# Altium footprint library fastcar.PcbLib: 23 footprints (part 1 of 2)
Each footprint in its own frame and in the unit in brackets; x right, y up, seen from the top. Pads: shape width x height; smd on the part's side, far side on the other; paste and mask are expansions set on the pad; w line width, h text height; cw(c..) or ccw(c..) is an arc to the next point about the centre after c.
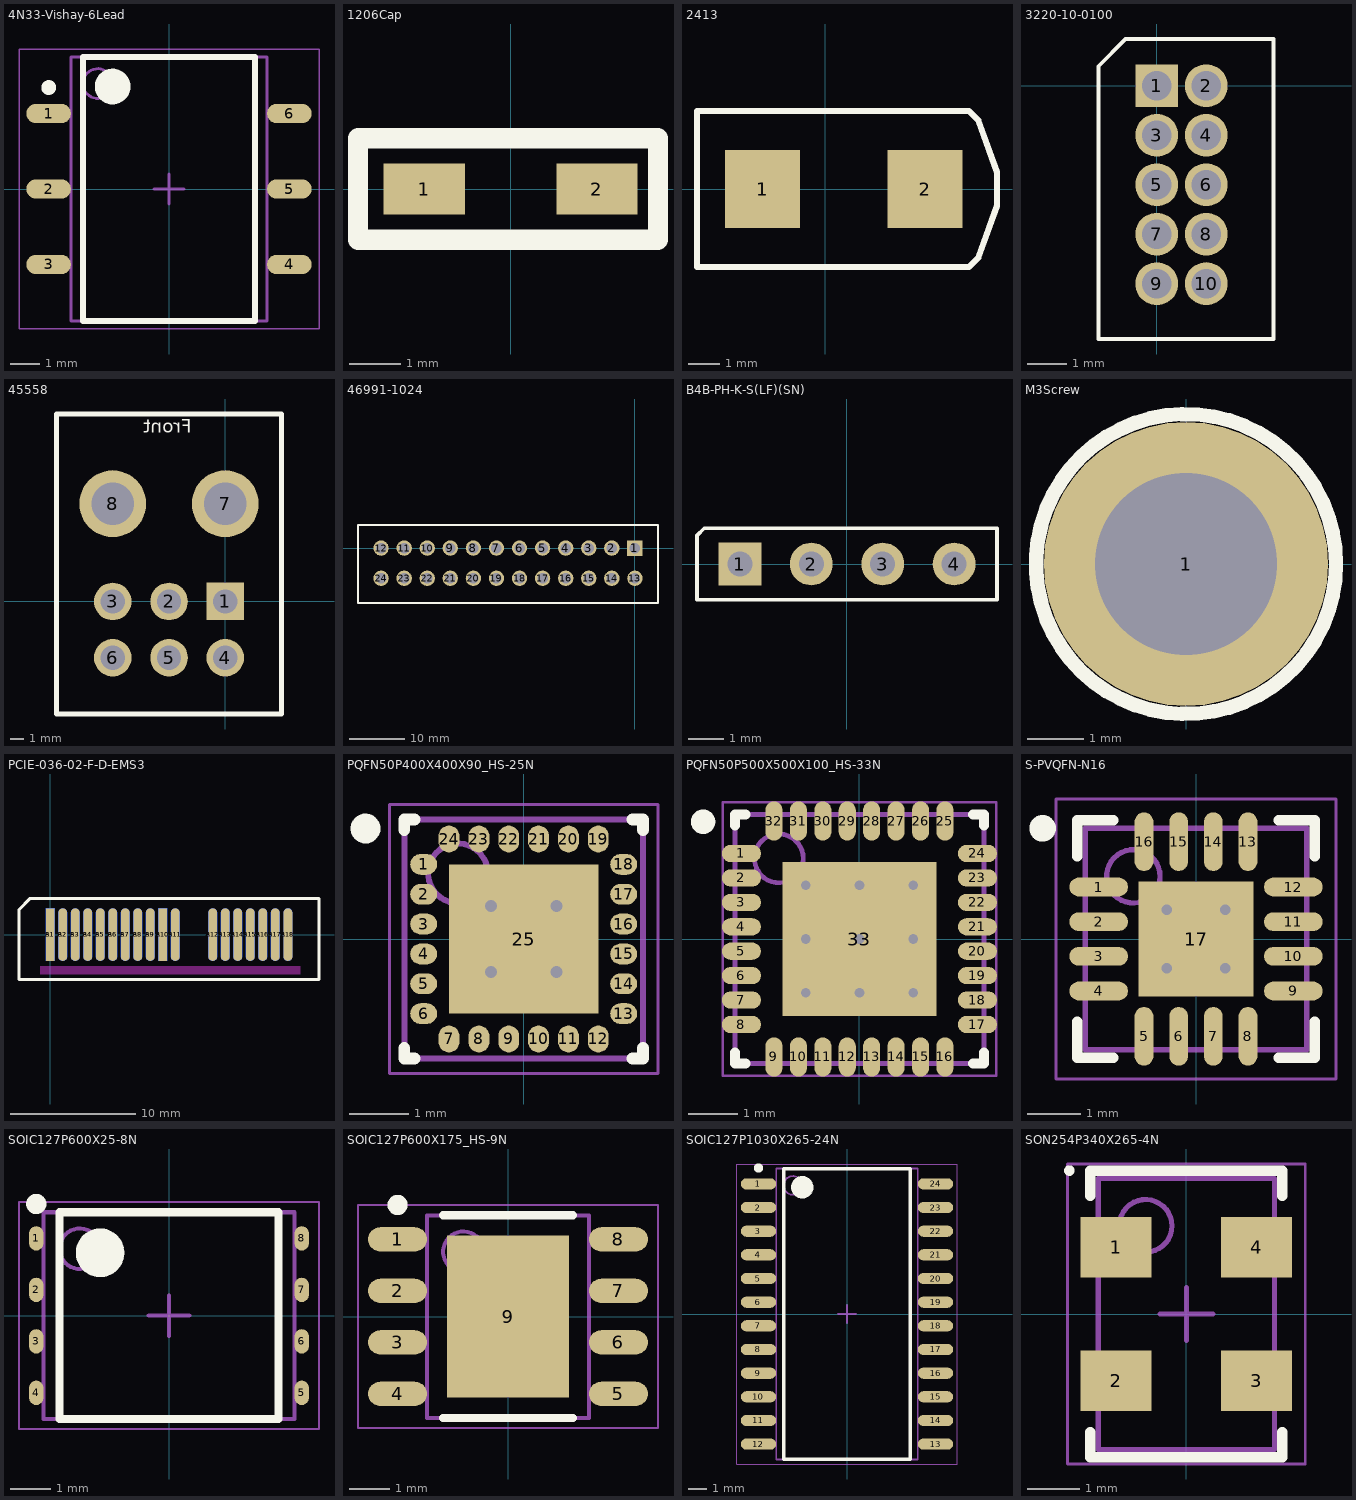
[diagram p0: the footprints below, top view; thin cyan lines are the x and y axes]

## 4N33-Vishay-6Lead [mm] "SOP, 6-Leads, Body 8.52x6.35mm, Pitch 2.54mm, IPC Medium Density"
height 5
pads (6):
  oval 1.5x0.65 smd: 1(-4.05,2.54) 2(-4.05,0) 3(-4.05,-2.54) 4(4.05,-2.54) 5(4.05,0) 6(4.05,2.54)
Top Overlay:
  circle w0.6: c-1.9,3.45 r0.3
  circle w0.25: c-4.05,3.415 r0.125
  lines w0.2: -2.9,-4.45 2.9,-4.45 2.9,4.45 -2.9,4.45 -2.9,-4.45
Mechanical 13:
  circle w0.1: c-2.4,3.55 r0.5
  lines w0.1: -3.3,-4.45 3.3,-4.45 3.3,4.45 -3.3,4.45 -3.3,-4.45
Mechanical 15:
  lines w0.05: -5.05,-4.7 5.05,-4.7 5.05,4.7 -5.05,4.7 -5.05,-4.7
  lines w0.1: -0.5,0 0.5,0 ; 0,-0.5 0,0.5
3D body: height 5, standoff 0.1, extent -3.3,-4.45 3.3,4.45

## 1206Cap [mm]
pads (2):
  rect 1.6x1 smd: 1(-1.7,0) 2(1.7,0)
Top Overlay:
  lines w0.4: -3,-1 2.9,-1 2.9,1 -3,1 -3,-1

## 2413 [mm]
pads (2):
  rect 2.4x2.5 smd: 1(-2,0) 2(3.2,0)
Top Overlay:
  lines w0.2: -4.1,-2.5 -4.1,0 -4.1,2.5 4.6,2.5 4.9,2.2 5.5,0.533 5.5,-0.533 4.9,-2.2 4.6,-2.5 -4.1,-2.5

## 3220-10-0100 [mm]
pads (10):
  rect 1.1x1.1 hole 0.75: 1(0,0)
  round 1.1 hole 0.75: 2(1.27,0) 3(0,-1.27) 4(1.27,-1.27) 5(0,-2.54) 6(1.27,-2.54) 7(0,-3.81) 8(1.27,-3.81) 9(0,-5.08) 10(1.27,-5.08)
Top Overlay:
  lines w0.1: -1.5,-6.5 3,-6.5 3,1.2 2.05,1.2 0.15,1.2 -0.8,1.2 -1.5,0.5 -1.5,-6.5

## 45558 [mm] "6 CKT R/A Header Mini Fit Jr PCI-E Power"
pads (8):
  rect 2.8x2.8 hole 1.8: 1(0,0)
  round 2.8 hole 1.8: 2(-4.2,0) 3(-8.4,0) 4(0,-4.2) 5(-4.2,-4.2) 6(-8.4,-4.2)
  round 5 hole 3.2: 7(0,7.3) 8(-8.4,7.3)
Top Overlay:
  lines w0.4: -12.6,-8.4 4.2,-8.4 4.2,14 -12.6,14 -12.6,-8.4
  text "Front" at -2.5,12.6 h1

## 46991-1024 [mm] "MINIFIT RTC Right Angle Header W/O PEG"
height 9.6
pads (24):
  rect 2.8x2.8 hole 1.9: 1(0,0)
  round 2.8 hole 1.9: 2(-4.2,0) 3(-8.4,0) 4(-12.6,0) 5(-16.8,0) 6(-21,0) 7(-25.2,0) 8(-29.4,0) 9(-33.6,0) 10(-37.8,0) 11(-42,0) 12(-46.2,0) 13(0,-5.5) 14(-4.2,-5.5) 15(-8.4,-5.5) 16(-12.6,-5.5) 17(-16.8,-5.5) 18(-21,-5.5) 19(-25.2,-5.5) 20(-29.4,-5.5) 21(-33.6,-5.5) 22(-37.8,-5.5) 23(-42,-5.5) 24(-46.2,-5.5)
Top Overlay:
  lines w0.4: -50.4,-10 -50.4,4.2 4.2,4.2 4.2,-10 -50.4,-10

## B4B-PH-K-S(LF)(SN) [mm] "CONN HEADER PH TOP 4POS 2MM"
height 5
pads (4):
  rect 1.2x1.2 hole 0.7: 1(-3,0)
  round 1.2 hole 0.7: 2(-1,0) 3(1,0) 4(3,0)
Top Overlay:
  lines w0.1: -4.2,-1 4.2,-1 4.2,1 -4,1 -4.2,0.8 -4.2,-1

## M3Screw [mm] "M3ScrewHole"
pads (1):
  round 5 hole 3.2: 1(0,0)
Top Overlay:
  circle w0.254: c0,0 r2.64

## PCIE-036-02-F-D-EMS3 [mm] "Samtec 36 Pin Saddle PCI-Express Connector PCIE-036-02-F-D-EMS3"
pads (36):
  rect 0.7x4.2 smd: A1(0,0) A10(9,0)
  oval 0.7x4.2 smd: A2(1,0) A3(2,0) A4(3,0) A5(4,0) A6(5,0) A7(6,0) A8(7,0) A9(8,0) A11(10,0) A12(13,0) A13(14,0) A14(15,0) A15(16,0) A16(17,0) A17(18,0) A18(19.016,0)
  rect 0.7x4.2 smd far side: B1(0,0) B10(9,0)
  oval 0.7x4.2 smd far side: B2(1,0) B3(2,0) B4(3,0) B5(4,0) B6(5,0) B7(6,0) B8(7,0) B9(8,0) B11(10,0) B12(13,0) B13(14,0) B14(15,0) B15(16,0) B16(17,0) B17(18,0) B18(19.016,0)
Top Overlay:
  lines w0.254: -2.5,-3.6 21.5,-3.6 21.5,2.9 -1.6,2.9 -2.5,2 -2.5,-3.6
  text ".Designator" at -1,3.3 h1
Keep-Out Layer:
  rectangle: -0.8,-3.2 20,-2.5

## PQFN50P400X400X90_HS-25N [mm] "PQFN, 24-Leads, Body 4.00x4.00mm, Pitch 0.50mm, Thermal Pad 2.50x2.50mm, IPC Medium Density"
height 0.9
pads (25):
  oval 0.45x0.35 smd: 1(-1.675,1.25) 2(-1.675,0.75) 3(-1.675,0.25) 4(-1.675,-0.25) 5(-1.675,-0.75) 6(-1.675,-1.25) 13(1.675,-1.25) 14(1.675,-0.75) 15(1.675,-0.25) 16(1.675,0.25) 17(1.675,0.75) 18(1.675,1.25)
  oval 0.35x0.45 smd: 7(-1.25,-1.675) 8(-0.75,-1.675) 9(-0.25,-1.675) 10(0.25,-1.675) 11(0.75,-1.675) 12(1.25,-1.675) 19(1.25,1.675) 20(0.75,1.675) 21(0.25,1.675) 22(-0.25,1.675) 23(-0.75,1.675) 24(-1.25,1.675)
  rect 2.5x2.5 smd: 25(0,0)
via -0.55,0.55 diameter 0.5 hole 0.2
via 0.55,0.55 diameter 0.5 hole 0.2
via -0.55,-0.55 diameter 0.5 hole 0.2
via 0.55,-0.55 diameter 0.5 hole 0.2
Top Overlay:
  circle w0.25: c-2.65,1.85 r0.125
  lines w0.2: -2,-1.825 -2,-2 -1.825,-2 ; -2,1.825 -2,2 -1.825,2 ; 1.825,-2 2,-2 2,-1.825 ; 1.825,2 2,2 2,1.825
Mechanical 13:
  circle w0.1: c-1.1,1.1 r0.5
  lines w0.1: -2,-2 -2,2 2,2 2,-2 -2,-2
Mechanical 15:
  lines w0.05: -2.25,-2.25 -2.25,2.25 2.25,2.25 2.25,-2.25 -2.25,-2.25
  lines w0.1: -0.5,0 0.5,0 ; 0,-0.5 0,0.5
3D body: height 0.9, standoff 0, extent -2,-2 2,2

## PQFN50P500X500X100_HS-33N [mm] "PQFN, 32-Leads, Body 5.00x5.00mm, Pitch 0.50mm, Thermal Pad 3.10x3.10mm, IPC Medium Density"
height 1
pads (33):
  oval 0.8x0.35 smd: 1(-2.415,1.75) 2(-2.415,1.25) 3(-2.415,0.75) 4(-2.415,0.25) 5(-2.415,-0.25) 6(-2.415,-0.75) 7(-2.415,-1.25) 8(-2.415,-1.75) 17(2.415,-1.75) 18(2.415,-1.25) 19(2.415,-0.75) 20(2.415,-0.25) 21(2.415,0.25) 22(2.415,0.75) 23(2.415,1.25) 24(2.415,1.75)
  oval 0.35x0.8 smd: 9(-1.75,-2.415) 10(-1.25,-2.415) 11(-0.75,-2.415) 12(-0.25,-2.415) 13(0.25,-2.415) 14(0.75,-2.415) 15(1.25,-2.415) 16(1.75,-2.415) 25(1.75,2.415) 26(1.25,2.415) 27(0.75,2.415) 28(0.25,2.415) 29(-0.25,2.415) 30(-0.75,2.415) 31(-1.25,2.415) 32(-1.75,2.415)
  rect 3.15x3.15 smd: 33(0,0)
via -1.1,1.1 diameter 0.5 hole 0.2
via 0,1.1 diameter 0.5 hole 0.2
via 1.1,1.1 diameter 0.5 hole 0.2
via -1.1,0 diameter 0.5 hole 0.2
via 0,0 diameter 0.5 hole 0.2
via 1.1,0 diameter 0.5 hole 0.2
via -1.1,-1.1 diameter 0.5 hole 0.2
via 0,-1.1 diameter 0.5 hole 0.2
via 1.1,-1.1 diameter 0.5 hole 0.2
Top Overlay:
  circle w0.25: c-3.2,2.4 r0.125
  lines w0.2: -2.55,-2.325 -2.55,-2.55 -2.325,-2.55 ; -2.55,2.325 -2.55,2.55 -2.325,2.55 ; 2.325,-2.55 2.55,-2.55 2.55,-2.325 ; 2.325,2.55 2.55,2.55 2.55,2.325
Mechanical 13:
  circle w0.1: c-1.65,1.65 r0.5
  lines w0.1: -2.55,-2.55 -2.55,2.55 2.55,2.55 2.55,-2.55 -2.55,-2.55
Mechanical 15:
  lines w0.05: -2.8,-2.8 -2.8,2.8 2.8,2.8 2.8,-2.8 -2.8,-2.8
  lines w0.1: -0.5,0 0.5,0 ; 0,-0.5 0,0.5
3D body: height 1, standoff 0, extent -2.55,-2.55 2.55,2.55

## S-PVQFN-N16 [mm] "Footprint for NXP"
height 1
pads (17):
  oval 1.1x0.35 smd: 1(-1.825,0.975) 2(-1.825,0.325) 3(-1.825,-0.325) 4(-1.825,-0.975) 9(1.825,-0.975) 10(1.825,-0.325) 11(1.825,0.325) 12(1.825,0.975)
  oval 0.35x1.1 smd: 5(-0.975,-1.825) 6(-0.325,-1.825) 7(0.325,-1.825) 8(0.975,-1.825) 13(0.975,1.825) 14(0.325,1.825) 15(-0.325,1.825) 16(-0.975,1.825)
  rect 2.16x2.16 smd: 17(0,0)
via -0.55,0.55 diameter 0.5 hole 0.2
via 0.55,0.55 diameter 0.5 hole 0.2
via -0.55,-0.55 diameter 0.5 hole 0.2
via 0.55,-0.55 diameter 0.5 hole 0.2
Top Overlay:
  circle w0.25: c-2.875,2.075 r0.125
  lines w0.2: -2.225,-1.55 -2.225,-2.225 -1.55,-2.225 ; -2.225,1.55 -2.225,2.225 -1.55,2.225 ; 1.55,-2.225 2.225,-2.225 2.225,-1.55 ; 1.55,2.225 2.225,2.225 2.225,1.55
Mechanical 13:
  circle w0.1: c-1.175,1.175 r0.5
  lines w0.1: -2.075,-2.075 -2.075,2.075 2.075,2.075 2.075,-2.075 -2.075,-2.075
Mechanical 15:
  lines w0.05: -2.625,-2.625 -2.625,2.625 2.625,2.625 2.625,-2.625 -2.625,-2.625
  lines w0.1: -0.5,0 0.5,0 ; 0,-0.5 0,0.5
3D body: height 1, standoff 0.01, extent -2.075,-2.075 2.075,2.075

## SOIC127P600X25-8N [mm] "SOIC, 8-Leads, Body 4.92x5.95mm, Pitch 1.27mm, IPC Medium Density"
height 0.25
pads (8):
  oval 0.35x0.6 smd: 1(-3.275,1.905) 2(-3.275,0.635) 3(-3.275,-0.635) 4(-3.275,-1.905) 5(3.275,-1.905) 6(3.275,-0.635) 7(3.275,0.635) 8(3.275,1.905)
Top Overlay:
  circle w0.6: c-1.7,1.55 r0.3
  circle w0.25: c-3.275,2.755 r0.125
  lines w0.2: -2.7,-2.55 2.7,-2.55 2.7,2.55 -2.7,2.55 -2.7,-2.55
Mechanical 13:
  circle w0.1: c-2.2,1.65 r0.5
  lines w0.1: -3.1,-2.55 3.1,-2.55 3.1,2.55 -3.1,2.55 -3.1,-2.55
Mechanical 15:
  lines w0.05: -3.7,-2.8 3.7,-2.8 3.7,2.8 -3.7,2.8 -3.7,-2.8
  lines w0.1: -0.5,0 0.5,0 ; 0,-0.5 0,0.5
3D body: height 0.25, standoff 0.01, extent -3.1,-2.55 3.1,2.55

## SOIC127P600X175_HS-9N [mm] "SOIC, 8-Leads, Body 4.90x3.90mm, Pitch 1.27mm, Thermal Pad 4.00x3.00mm, IPC Medium Density"
height 1.75
pads (9):
  oval 1.45x0.6 smd: 1(-2.725,1.905) 2(-2.725,0.635) 3(-2.725,-0.635) 4(-2.725,-1.905) 5(2.725,-1.905) 6(2.725,-0.635) 7(2.725,0.635) 8(2.725,1.905)
  rect 3x4 smd: 9(0,0)
Top Overlay:
  circle w0.25: c-2.725,2.755 r0.125
  lines w0.2: -1.6,-2.5 1.6,-2.5 ; -1.6,2.5 1.6,2.5
Mechanical 13:
  circle w0.1: c-1.1,1.6 r0.5
  lines w0.1: -2,-2.5 2,-2.5 2,2.5 -2,2.5 -2,-2.5
Mechanical 15:
  lines w0.05: -3.7,-2.75 3.7,-2.75 3.7,2.75 -3.7,2.75 -3.7,-2.75
  lines w0.1: -0.5,0 0.5,0 ; 0,-0.5 0,0.5
3D body: height 1.75, standoff 0.01, extent -2,-2.5 2,2.5

## SOIC127P1030X265-24N [mm] "SOIC, 24-Leads, Body 15.40x7.50mm, Pitch 1.27mm, IPC Medium Density"
height 2.65
pads (24):
  oval 1.9x0.6 smd: 1(-4.75,6.985) 2(-4.75,5.715) 3(-4.75,4.445) 4(-4.75,3.175) 5(-4.75,1.905) 6(-4.75,0.635) 7(-4.75,-0.635) 8(-4.75,-1.905) 9(-4.75,-3.175) 10(-4.75,-4.445) 11(-4.75,-5.715) 12(-4.75,-6.985) 13(4.75,-6.985) 14(4.75,-5.715) 15(4.75,-4.445) 16(4.75,-3.175) 17(4.75,-1.905) 18(4.75,-0.635) 19(4.75,0.635) 20(4.75,1.905) 21(4.75,3.175) 22(4.75,4.445) 23(4.75,5.715) 24(4.75,6.985)
Top Overlay:
  circle w0.6: c-2.4,6.8 r0.3
  circle w0.25: c-4.75,7.835 r0.125
  lines w0.2: -3.4,-7.8 3.4,-7.8 3.4,7.8 -3.4,7.8 -3.4,-7.8
Mechanical 13:
  circle w0.1: c-2.9,6.9 r0.5
  lines w0.1: -3.8,-7.8 3.8,-7.8 3.8,7.8 -3.8,7.8 -3.8,-7.8
Mechanical 15:
  lines w0.05: -5.925,-8.05 5.925,-8.05 5.925,8.05 -5.925,8.05 -5.925,-8.05
  lines w0.1: -0.5,0 0.5,0 ; 0,-0.5 0,0.5
3D body: height 2.65, standoff 0.1, extent -3.8,-7.8 3.8,7.8

## SON254P340X265-4N [mm] "SON, 4-Leads, Body 5.15x3.35mm, Pitch 2.54mm, IPC Medium Density"
height 2.65
pads (4):
  rect 1.35x1.15 smd: 1(-1.335,1.27) 2(-1.335,-1.27) 3(1.335,-1.27) 4(1.335,1.27)
Top Overlay:
  circle w0.1: c-2.225,2.725 r0.05
  lines w0.2: -1.825,-2.245 -1.825,-2.725 1.825,-2.725 1.825,-2.245 ; -1.825,2.245 -1.825,2.725 1.825,2.725 1.825,2.245
Mechanical 13:
  circle w0.1: c-0.775,1.675 r0.5
  lines w0.1: -1.675,-2.575 -1.675,2.575 1.675,2.575 1.675,-2.575 -1.675,-2.575
Mechanical 15:
  lines w0.05: -2.26,-2.85 -2.26,2.85 2.26,2.85 2.26,-2.85 -2.26,-2.85
  lines w0.1: -0.5,0 0.5,0 ; 0,-0.5 0,0.5
3D body: height 2.65, standoff 0.1, extent -1.675,-2.575 1.675,2.575